# EAGLE library part 71-12SP-2D (library pswitch40)
Grayhill 71 Series, 12 Pos, 1 Pole, 2 Deck
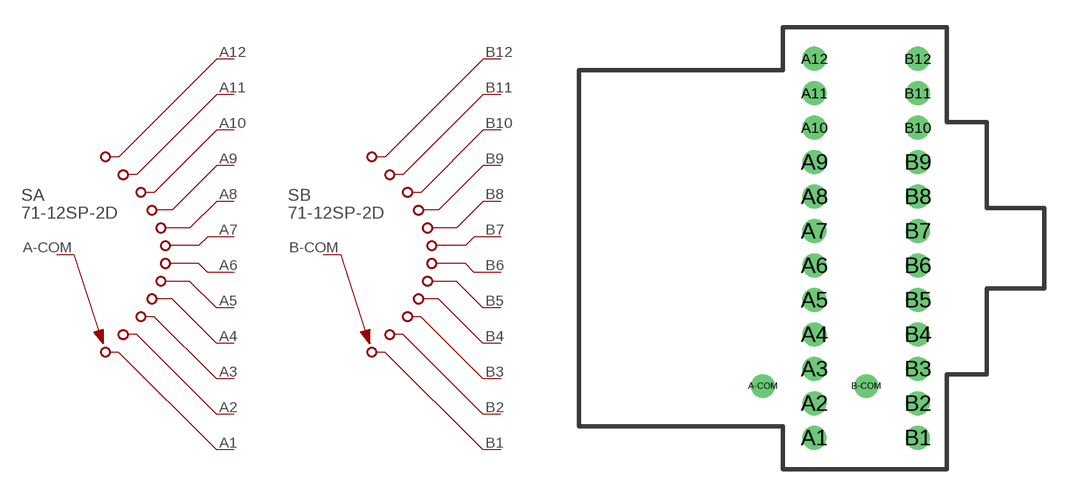
[diagram p7: symbol with the pads of 71-12-2D-2C; footprint 71-12-2D-2C]

Designator prefix S; gates A=71-12-PR B=71-12-PR

## 71-12SP-2D  [71-12-2D-2C]
A1  A:1  pas
A2  A:2  pas
A3  A:3  pas
A4  A:4  pas
A5  A:5  pas
A6  A:6  pas
A7  A:7  pas
A8  A:8  pas
A9  A:9  pas
A10  A:10  pas
A11  A:11  pas
A12  A:12  pas
A-COM  A:COM1  pas
B1  B:1  pas
B2  B:2  pas
B3  B:3  pas
B4  B:4  pas
B5  B:5  pas
B6  B:6  pas
B7  B:7  pas
B8  B:8  pas
B9  B:9  pas
B10  B:10  pas
B11  B:11  pas
B12  B:12  pas
B-COM  B:COM1  pas

## Footprint 71-12-2D-2C (pad centres in mm)
Grayhill 71 Series
drill 0.813 round: A1 3.175,-10.477; A2 3.175,-8.572; A3 3.175,-6.668; A4 3.175,-4.763; A5 3.175,-2.857; A6 3.175,-0.953; A7 3.175,0.953; A8 3.175,2.857; A9 3.175,4.763; A10 3.175,6.668; A11 3.175,8.572; A12 3.175,10.477; A-COM 0.318,-7.62; B1 8.89,-10.477; B2 8.89,-8.572; B3 8.89,-6.668; B4 8.89,-4.763; B5 8.89,-2.857; B6 8.89,-0.953; B7 8.89,0.953; B8 8.89,2.857; B9 8.89,4.763; B10 8.89,6.668; B11 8.89,8.572; B12 8.89,10.477; B-COM 6.033,-7.62